# Altium schematic symbol library Maxim MAX8211.SchLib: 1 symbol
Pins are listed as number, name and electrical type; pins without a type are passive.

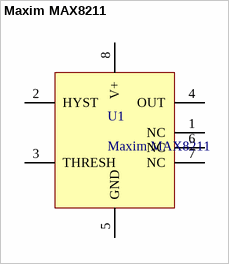
[diagram p0: symbol Maxim MAX8211]

## Maxim MAX8211
designator U1
footprint Maxim MAX8211 (MFG: MAX8211CSA+ Digikey: MAX8211CSA+-ND)
pins: 1 NC, 2 HYST, 3 THRESH, 4 OUT, 5 GND, 6 NC, 7 NC, 8 V+